# Altium footprint library ICs.PcbLib: 35 footprints (part 2 of 3)
Each footprint in its own frame and in the unit in brackets; x right, y up, seen from the top. Pads: shape width x height; smd on the part's side, far side on the other; paste and mask are expansions set on the pad; w line width, h text height; cw(c..) or ccw(c..) is an arc to the next point about the centre after c.
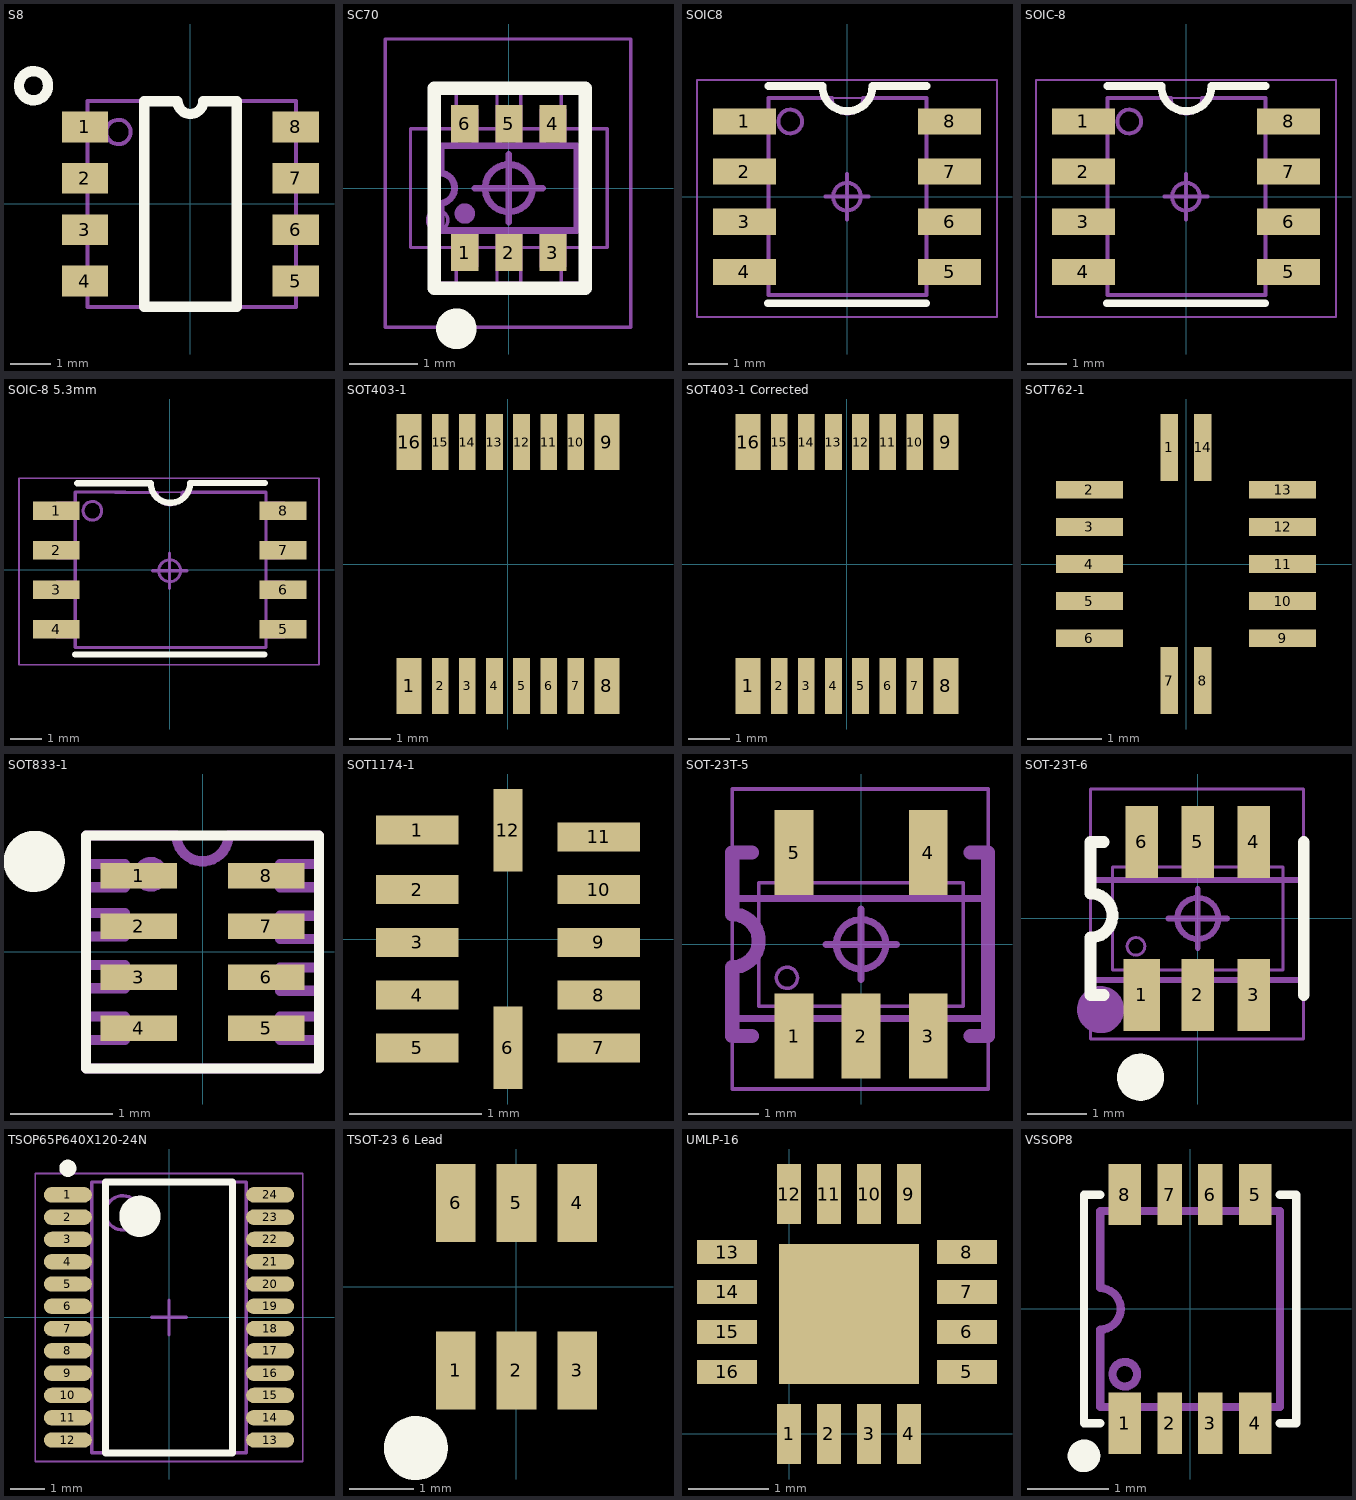
[diagram p1: the footprints below, top view; thin cyan lines are the x and y axes]

## S8 [mil] "8-Lead Splastic Small Outline Linear"
pads (8):
  rect 45x30 smd mask+4: 1(-102.5,75) 2(-102.5,25) 3(-102.5,-25) 4(-102.5,-75) 5(102.5,-75) 6(102.5,-25) 7(102.5,25) 8(102.5,75)
Top Overlay:
  circle w10: c-152.5,115 r14.14
  lines w10: -45,-100 45,-100 45,100 12.5,100 cw(c0,100) -12.5,100 -45,100 -45,-100
Mechanical 7:
  circle w3.94: c-70,70 r11.81
  lines w3.94: -100,-100 -100,100 -12.5,100 ccw(c0,100) 12.5,100 102.5,100 102.5,-100 -100,-100
  text ".Designator" at -20,35 h59.06
3D body "SOIC8.STEP": height 72.44, standoff 0, extent -119.68,-98.42 119.69,98.43

## SC70 [mm]
height 1.1
pads (6):
  rect 0.4x0.55 smd: 1(-0.65,-0.95) 2(0,-0.95) 3(0.65,-0.95) 4(0.65,0.95) 5(0,0.95) 6(-0.65,0.95)
Top Overlay:
  circle w0.3: c-0.775,-2.075 r0.15
  lines w0.2: -1.1,-1.475 1.125,-1.475 1.125,1.475 -1.1,1.475 -1.1,-1.475
Mechanical 2:
  circle w0.05: c-1.05,-0.475 r0.15
  lines w0.05: -1.125,-0.875 -1.125,-1.4 -0.775,-1.4 -0.775,-0.875 ; -1.125,0.875 -1.125,1.4 -0.775,1.4 -0.775,0.875 ; -0.175,-0.875 -0.175,-1.4 0.175,-1.4 0.175,-0.875 ; -0.175,0.875 -0.175,1.4 0.175,1.4 0.175,0.875 ; 0.775,-0.875 0.775,-1.4 1.125,-1.4 1.125,-0.875 ; 0.775,0.875 0.775,1.4 1.125,1.4 1.125,0.875 ; -1.45,-0.875 -1.45,0.875 1.45,0.875 1.45,-0.875 -1.45,-0.875
Mechanical 4:
  circle w0.1: c0,0 r0.35
  lines w0.05: -1.825,-2.05 -1.825,2.2 1.8,2.2 1.8,-2.05 -1.825,-2.05
  lines w0.1: -0.5,0 0.5,0 ; 0,-0.5 0,0.5
Mechanical 7:
  circle w0.15: c-0.65,-0.375 r0.075
  lines w0.1: -0.8,-0.625 -0.8,-1.15 -0.5,-1.15 -0.5,-0.625 ; -0.8,0.625 -0.8,1.15 -0.5,1.15 -0.5,0.625 ; -0.15,-0.625 -0.15,-1.15 0.15,-1.15 0.15,-0.625 ; -0.15,0.625 -0.15,1.15 0.15,1.15 0.15,0.625 ; 0.5,-0.625 0.5,-1.15 0.8,-1.15 0.8,-0.625 ; 0.5,0.625 0.5,1.15 0.8,1.15 0.8,0.625 ; -1,-0.625 -1,-0.225 ccw(c-1.027,0) -1,0.225 -1,0.625 1,0.625 1,-0.625 -1,-0.625
  text ".Designator" at -0.4,-0.475 h1.5
3D body: height 1.1, standoff 0, extent -1,-0.7 1,0.7

## SOIC8 [mm]
pads (8):
  rect 1.6x0.65 smd: 1(-2.6,1.905)
  rect 1.6x0.66 smd: 2(-2.6,0.635) 3(-2.6,-0.635) 4(-2.6,-1.905) 5(2.6,-1.905) 6(2.6,-0.635) 7(2.6,0.635) 8(2.6,1.905)
Top Overlay:
  lines w0.2: -2,-2.7 2,-2.7 ; -1.989,2.8 -0.624,2.8 ccw(c0.011,2.8) 0.646,2.8 2.011,2.8
Mechanical 2:
  lines w0.05: -1.989,-2.155 -2.589,-2.155 -2.589,-1.655 -1.989,-1.655 ; -1.989,-0.885 -2.589,-0.885 -2.589,-0.385 -1.989,-0.385 ; -1.989,0.385 -2.589,0.385 -2.589,0.885 -1.989,0.885 ; -1.989,1.655 -2.589,1.655 -2.589,2.155 -1.989,2.155 ; -0.389,2.505 ccw(c0.011,2.505) 0.411,2.505 ; 2.011,-2.155 2.611,-2.155 2.611,-1.655 2.011,-1.655 ; 2.011,-0.885 2.611,-0.885 2.611,-0.385 2.011,-0.385 ; 2.011,0.385 2.611,0.385 2.611,0.885 2.011,0.885 ; 2.011,1.655 2.611,1.655 2.611,2.155 2.011,2.155 ; -1.989,-2.495 2.011,-2.495 2.011,2.505 -1.989,2.505 -1.989,-2.495
Mechanical 4:
  circle w0.1: c0,0 r0.35
  lines w0.05: -3.8,-3.045 -3.8,2.955 3.8,2.955 3.8,-3.045 -3.8,-3.045
  lines w0.1: -0.55,0 0.55,0 ; 0,-0.575 0,0.575
Mechanical 7:
  circle w0.1: c-1.439,1.905 r0.3
  lines w0.1: -1.989,-2.155 -2.589,-2.155 -2.589,-1.655 -1.989,-1.655 ; -1.989,-0.885 -2.589,-0.885 -2.589,-0.385 -1.989,-0.385 ; -1.989,0.385 -2.589,0.385 -2.589,0.885 -1.989,0.885 ; -1.989,1.655 -2.589,1.655 -2.589,2.155 -1.989,2.155 ; -0.389,2.505 ccw(c0.011,2.505) 0.411,2.505 2.011,2.505 2.011,-2.495 -1.989,-2.495 -1.989,2.505 -0.381,2.505 ; 2.011,-2.155 2.611,-2.155 2.611,-1.655 2.011,-1.655 ; 2.011,-0.885 2.611,-0.885 2.611,-0.385 2.011,-0.385 ; 2.011,0.385 2.611,0.385 2.611,0.885 2.011,0.885 ; 2.011,1.655 2.611,1.655 2.611,2.155 2.011,2.155
  text ".Designator" at 0.55,-2.3 h2.2
3D body "SOIC8.STEP": height 1.84, standoff 0, extent -3.048,-2.489 3.032,2.511

## SOIC-8 [mm]
pads (8):
  rect 1.6x0.65 smd: 1(-2.6,1.905)
  rect 1.6x0.66 smd: 2(-2.6,0.635) 3(-2.6,-0.635) 4(-2.6,-1.905) 5(2.6,-1.905) 6(2.6,-0.635) 7(2.6,0.635) 8(2.6,1.905)
Top Overlay:
  lines w0.2: -2,-2.7 2,-2.7 ; -1.989,2.8 -0.624,2.8 ccw(c0.011,2.8) 0.646,2.8 2.011,2.8
Mechanical 2:
  lines w0.05: -1.989,-2.155 -2.589,-2.155 -2.589,-1.655 -1.989,-1.655 ; -1.989,-0.885 -2.589,-0.885 -2.589,-0.385 -1.989,-0.385 ; -1.989,0.385 -2.589,0.385 -2.589,0.885 -1.989,0.885 ; -1.989,1.655 -2.589,1.655 -2.589,2.155 -1.989,2.155 ; -0.389,2.505 ccw(c0.011,2.505) 0.411,2.505 ; 2.011,-2.155 2.611,-2.155 2.611,-1.655 2.011,-1.655 ; 2.011,-0.885 2.611,-0.885 2.611,-0.385 2.011,-0.385 ; 2.011,0.385 2.611,0.385 2.611,0.885 2.011,0.885 ; 2.011,1.655 2.611,1.655 2.611,2.155 2.011,2.155 ; -1.989,-2.495 -1.989,2.505 2.011,2.505 2.011,-2.495 -1.989,-2.495
Mechanical 4:
  circle w0.1: c0,0 r0.35
  lines w0.05: -3.8,-3.045 3.8,-3.045 3.8,2.955 -3.8,2.955 -3.8,-3.045
  lines w0.1: -0.55,0 0.55,0 ; 0,-0.575 0,0.575
Mechanical 7:
  circle w0.1: c-1.439,1.905 r0.3
  lines w0.1: -1.989,-2.155 -2.589,-2.155 -2.589,-1.655 -1.989,-1.655 ; -1.989,-0.885 -2.589,-0.885 -2.589,-0.385 -1.989,-0.385 ; -1.989,0.385 -2.589,0.385 -2.589,0.885 -1.989,0.885 ; -1.989,1.655 -2.589,1.655 -2.589,2.155 -1.989,2.155 ; -0.389,2.505 ccw(c0.011,2.505) 0.411,2.505 2.011,2.505 2.011,-2.495 -1.989,-2.495 -1.989,2.505 -0.381,2.505 ; 2.011,-2.155 2.611,-2.155 2.611,-1.655 2.011,-1.655 ; 2.011,-0.885 2.611,-0.885 2.611,-0.385 2.011,-0.385 ; 2.011,0.385 2.611,0.385 2.611,0.885 2.011,0.885 ; 2.011,1.655 2.611,1.655 2.611,2.155 2.011,2.155
3D body "SOIC8.STEP": height 1.84, standoff 0, extent -3.048,-2.489 3.032,2.511

## SOIC-8 5.3mm [mm]
pads (8):
  rect 1.5x0.6 smd: 1(-3.65,1.905) 2(-3.65,0.635) 3(-3.65,-0.635) 4(-3.65,-1.905) 5(3.65,-1.905) 6(3.65,-0.635) 7(3.65,0.635) 8(3.65,1.905)
Top Overlay:
  lines w0.2: -3.048,-2.718 3.048,-2.718 ; -2.972,2.794 -0.61,2.794 ccw(c0.025,2.794) 0.66,2.794 ; 0.66,2.8 3.073,2.8
Mechanical 2:
  lines w0.05: -3.039,-2.155 -3.639,-2.155 -3.639,-1.655 -3.039,-1.655 ; -3.039,-0.885 -3.639,-0.885 -3.639,-0.385 -3.039,-0.385 ; -3.039,0.385 -3.639,0.385 -3.639,0.885 -3.039,0.885 ; -3.039,1.655 -3.639,1.655 -3.639,2.155 -3.039,2.155 ; -0.394,2.489 ccw(c0.006,2.489) 0.406,2.489 ; 3.091,-2.499 3.091,2.501 ; 3.091,-2.495 -3.039,-2.495 -3.039,2.505 3.091,2.505 ; 3.091,-2.159 3.691,-2.159 3.691,-1.659 3.091,-1.659 ; 3.091,-0.889 3.691,-0.889 3.691,-0.389 3.091,-0.389 ; 3.091,0.381 3.691,0.381 3.691,0.881 3.091,0.881 ; 3.091,1.651 3.691,1.651 3.691,2.151 3.091,2.151
Mechanical 4:
  circle w0.1: c0,-0.025 r0.35
  lines w0.05: 4.808,-3.045 -4.85,-3.045 -4.85,2.955 4.808,2.955
  lines w0.051: 4.808,-3.045 4.808,2.955
  lines w0.1: -0.55,-0.025 0.55,-0.025 ; 0,-0.6 0,0.55
Mechanical 7:
  circle w0.1: c-2.489,1.905 r0.3
  lines w0.1: -3.039,-2.155 -3.639,-2.155 -3.639,-1.655 -3.039,-1.655 ; -3.039,-0.885 -3.639,-0.885 -3.639,-0.385 -3.039,-0.385 ; -3.039,0.385 -3.639,0.385 -3.639,0.885 -3.039,0.885 ; -3.039,1.655 -3.639,1.655 -3.639,2.155 -3.039,2.155 ; -1.753,2.489 -0.394,2.489 ccw(c0.006,2.489) 0.406,2.489 ; -1.431,2.505 -3.039,2.505 -3.039,-2.495 0.961,-2.495 3.095,-2.495 ; 0.418,2.501 1.499,2.501 3.099,2.501 3.099,-2.499 ; 3.099,-2.159 3.699,-2.159 3.699,-1.659 3.099,-1.659 ; 3.099,-0.889 3.699,-0.889 3.699,-0.389 3.099,-0.389 ; 3.099,0.381 3.699,0.381 3.699,0.881 3.099,0.881 ; 3.099,1.651 3.699,1.651 3.699,2.151 3.099,2.151
3D body "SOIC-8-208MIL.stp": height 2, standoff 0, extent -4.062,-2.485 4.062,2.515

## SOT403-1 [mm]
pads (16):
  rect 0.6x1.35 smd mask+0.051: 1(-2.375,-2.925) 8(2.375,-2.925) 9(2.375,2.925) 16(-2.375,2.925)
  rect 0.4x1.35 smd mask+0.051: 2(-1.625,-2.925) 3(-0.975,-2.925) 4(-0.325,-2.925) 5(0.325,-2.925) 6(0.975,-2.925) 7(1.625,-2.925) 10(1.625,2.925) 11(0.975,2.925) 12(0.325,2.925) 13(-0.325,2.925) 14(-0.975,2.925) 15(-1.625,2.925)
3D body "TSSOP16.stp": height 1.11, standoff 0.01, extent -2.551,-3.171 2.551,3.259

## SOT403-1 Corrected [mm]
pads (16):
  rect 0.6x1.35 smd mask+0.051: 1(-2.375,-2.925) 8(2.375,-2.925) 9(2.375,2.925) 16(-2.375,2.925)
  rect 0.4x1.35 smd mask+0.051: 2(-1.625,-2.925) 3(-0.975,-2.925) 4(-0.325,-2.925) 5(0.325,-2.925) 6(0.975,-2.925) 7(1.625,-2.925) 10(1.625,2.925) 11(0.975,2.925) 12(0.325,2.925) 13(-0.325,2.925) 14(-0.975,2.925) 15(-1.625,2.925)
3D body "TSSOP16.stp": height 1.11, standoff 0.01, extent -2.551,-3.171 2.551,3.259

## SOT762-1 [mm]
pads (14):
  rect 0.24x0.9 smd mask+0.051: 1(-0.225,1.57) 7(-0.225,-1.57) 8(0.225,-1.57) 14(0.225,1.57)
  rect 0.9x0.24 smd mask+0.051: 2(-1.3,1) 3(-1.3,0.5) 4(-1.3,0) 5(-1.3,-0.5) 6(-1.3,-1) 9(1.3,-1) 10(1.3,-0.5) 11(1.3,0) 12(1.3,0.5) 13(1.3,1)
3D body: height 1, standoff 0, extent -1.25,-1.5 1.25,1.5

## SOT833-1 [mm]
height 0.5
pads (8):
  rect 0.75x0.25 smd mask+0.025: 1(-0.625,0.75) 2(-0.625,0.25) 3(-0.625,-0.25) 4(-0.625,-0.75) 5(0.625,-0.75) 6(0.625,-0.25) 7(0.625,0.25) 8(0.625,0.75)
Top Overlay:
  circle w0.3: c-1.651,0.889 r0.15
  lines w0.1: -1.143,-1.143 1.143,-1.143 1.143,1.143 -1.143,1.143 -1.143,-1.143
Mechanical 7:
  circle w0.1: c-0.508,0.762 r0.12
  lines w0.1: -1.143,-0.864 -0.762,-0.864 -0.762,-0.635 -1.143,-0.635 ; -1.143,-0.356 -0.762,-0.356 -0.762,-0.127 -1.143,-0.127 ; -1.143,0.152 -0.762,0.152 -0.762,0.381 -1.143,0.381 ; -1.143,0.635 -0.762,0.635 -0.762,0.864 -1.143,0.864 ; 1.143,-0.864 0.762,-0.864 0.762,-0.635 1.143,-0.635 ; 1.143,-0.381 0.762,-0.381 0.762,-0.152 1.143,-0.152 ; 1.143,0.127 0.762,0.127 0.762,0.356 1.143,0.356 ; 1.143,0.635 0.762,0.635 0.762,0.864 1.143,0.864 ; -1.143,-1.143 -1.143,1.143 -0.254,1.143 ccw(c0,1.143) 0.254,1.143 1.143,1.143 1.143,-1.143 -1.143,-1.143
  text ".Designator" at -0.508,0.508 h1.5
3D body: height 0.5, standoff 0, extent -0.5,-1 0.5,1

## SOT1174-1 [mm]
pads (12):
  rect 0.625x0.22 smd mask+0.025: 1(-0.687,0.825) 2(-0.687,0.375) 3(-0.687,-0.025) 4(-0.687,-0.425) 5(-0.687,-0.825) 7(0.688,-0.825) 8(0.688,-0.425) 9(0.688,-0.025) 10(0.688,0.375) 11(0.688,0.775)
  rect 0.22x0.625 smd mask+0.025: 6(0,-0.825) 12(0,0.825)
3D body: height 0.5, standoff 0, extent -0.9,-1.05 0.9,1.05

## SOT-23T-5 [mm] "SOT-23-5pins.ogl"
pads (5):
  rect 0.55x1.2 smd: 1(-0.95,-1.3) 2(0,-1.3) 3(0.95,-1.3) 4(0.95,1.3) 5(-0.95,1.3)
Mechanical 2:
  circle w0.05: c-1.05,-0.475 r0.15
  lines w0.05: -1.125,-0.875 -1.125,-1.4 -0.775,-1.4 -0.775,-0.875 ; -1.125,0.875 -1.125,1.4 -0.775,1.4 -0.775,0.875 ; -0.175,-0.875 -0.175,-1.4 0.175,-1.4 0.175,-0.875 ; 0.775,-0.875 0.775,-1.4 1.125,-1.4 1.125,-0.875 ; 0.775,0.875 0.775,1.4 1.125,1.4 1.125,0.875 ; -1.45,-0.875 1.45,-0.875 1.45,0.875 -1.45,0.875 -1.45,-0.875
Mechanical 4:
  circle w0.1: c0,0 r0.35
  lines w0.05: -1.825,-2.05 1.8,-2.05 1.8,2.2 -1.825,2.2 -1.825,-2.05
  lines w0.1: -0.5,0 0.5,0 ; 0,-0.5 0,0.5
Mechanical 7:
  lines w0.1: -1.75,-1.05 1.7,-1.05 ; -1.75,0.65 1.7,0.65 ; -1.15,-1.05 -1.15,-1.65 -0.75,-1.65 -0.75,-1.05 ; -1.15,0.7 -1.15,1.3 -0.75,1.3 -0.75,0.7 ; -0.2,-1.05 -0.2,-1.65 0.2,-1.65 0.2,-1.05 ; 0.75,-1.05 0.75,-1.65 1.15,-1.65 1.15,-1.05 ; 0.75,0.65 0.75,1.25 1.15,1.25 1.15,0.65
  text ".Designator" at -1.75,-0.775 h1.8
Mechanical 13:
  lines w0.2: -1.55,-1.3 -1.825,-1.3 -1.825,-0.325 ccw(c-1.825,0.05) -1.825,0.425 -1.825,1.3 -1.55,1.3 ; 1.55,-1.3 1.8,-1.3 1.8,1.3 1.55,1.3
3D body "SOT-23T-5.STEP": height 1.4, standoff 0, extent -1.45,-1.8 1.45,1.82

## SOT-23T-6 [mm] "SOT-23.ogl"
pads (6):
  rect 0.62x1.22 smd: 1(-0.95,-1.3)
  rect 0.55x1.22 smd: 2(0,-1.3) 3(0.95,-1.3) 4(0.95,1.3) 5(0,1.3) 6(-0.95,1.3)
Top Overlay:
  circle w0.4: c-0.975,-2.7 r0.2
  lines w0.2: -1.6,-1.3 -1.825,-1.3 -1.825,-0.325 ccw(c-1.825,0.05) -1.825,0.425 -1.825,1.3 -1.6,1.3 ; 1.8,-1.3 1.8,1.3
Mechanical 2:
  circle w0.05: c-1.05,-0.475 r0.15
  lines w0.05: -1.125,-0.875 -1.125,-1.4 -0.775,-1.4 -0.775,-0.875 ; -1.125,0.875 -1.125,1.4 -0.775,1.4 -0.775,0.875 ; -0.175,-0.875 -0.175,-1.4 0.175,-1.4 0.175,-0.875 ; -0.175,0.875 -0.175,1.4 0.175,1.4 0.175,0.875 ; 0.775,-0.875 0.775,-1.4 1.125,-1.4 1.125,-0.875 ; 0.775,0.875 0.775,1.4 1.125,1.4 1.125,0.875 ; -1.45,-0.875 -1.45,0.875 1.45,0.875 1.45,-0.875 -1.45,-0.875
Mechanical 4:
  circle w0.1: c0,0 r0.35
  lines w0.05: -1.825,-2.05 -1.825,2.2 1.8,2.2 1.8,-2.05 -1.825,-2.05
  lines w0.1: -0.5,0 0.5,0 ; 0,-0.5 0,0.5
Mechanical 7:
  circle w0.4: c-1.65,-1.55 r0.2
  lines w0.1: -1.75,-1.05 1.7,-1.05 ; -1.75,0.65 1.7,0.65 ; -1.15,-1.05 -1.15,-1.65 -0.75,-1.65 -0.75,-1.05 ; -1.15,0.7 -1.15,1.3 -0.75,1.3 -0.75,0.7 ; -0.2,-1.05 -0.2,-1.65 0.2,-1.65 0.2,-1.05 ; -0.2,0.65 -0.2,1.25 0.2,1.25 0.2,0.65 ; 0.75,-1.05 0.75,-1.65 1.15,-1.65 1.15,-1.05 ; 0.75,0.65 0.75,1.25 1.15,1.25 1.15,0.65
  text ".Designator" at -1.75,-0.775 h1.8
3D body "SOT-23T-6.STEP": height 1.1, standoff 0, extent -1.425,-1.45 1.475,1.45

## TSOP65P640X120-24N [mm] "TSOP, 24-Leads, Body 7.80x4.40mm, Pitch 0.65mm, IPC Medium Density"
height 1.2
pads (24):
  oval 1.4x0.45 smd mask+0.051: 1(-2.95,3.575) 2(-2.95,2.925) 3(-2.95,2.275) 4(-2.95,1.625) 5(-2.95,0.975) 6(-2.95,0.325) 7(-2.95,-0.325) 8(-2.95,-0.975) 9(-2.95,-1.625) 10(-2.95,-2.275) 11(-2.95,-2.925) 12(-2.95,-3.575) 13(2.95,-3.575) 14(2.95,-2.925) 15(2.95,-2.275) 16(2.95,-1.625) 17(2.95,-0.975) 18(2.95,-0.325) 19(2.95,0.325) 20(2.95,0.975) 21(2.95,1.625) 22(2.95,2.275) 23(2.95,2.925) 24(2.95,3.575)
Top Overlay:
  circle w0.6: c-0.85,2.95 r0.3
  circle w0.25: c-2.95,4.35 r0.125
  lines w0.2: -1.85,-3.95 1.85,-3.95 1.85,3.95 -1.85,3.95 -1.85,-3.95
Mechanical 13:
  circle w0.1: c-1.35,3.05 r0.5
  lines w0.1: -2.25,-3.95 2.25,-3.95 2.25,3.95 -2.25,3.95 -2.25,-3.95
Mechanical 15:
  lines w0.05: -3.9,-4.2 3.9,-4.2 3.9,4.2 -3.9,4.2 -3.9,-4.2
  lines w0.1: -0.5,0 0.5,0 ; 0,-0.5 0,0.5
3D body "TSOP65P640X120-24N.step": height 1.2, standoff 0, extent -3.2,-3.95 3.2,3.95

## TSOT-23 6 Lead [mm]
pads (6):
  rect 0.62x1.22 smd mask+0.03: 1(-0.95,-1.31) 2(0,-1.31) 3(0.95,-1.31) 4(0.95,1.31) 5(0,1.31) 6(-0.95,1.31)
Top Overlay:
  circle w0.5: c-1.575,-2.525 r0.25
3D body: height 1, standoff 0, extent -1.45,-0.8 1.45,0.8

## UMLP-16 [mm]
height 0.5
pads (17):
  rect 0.3x0.75 smd mask+0.051: 1(0,0) 2(0.5,0) 3(1,0) 4(1.5,0) 9(1.5,3) 10(1,3) 11(0.5,3) 12(0,3)
  rect 0.75x0.3 smd mask+0.051: 5(2.225,0.775) 6(2.225,1.275) 7(2.225,1.775) 8(2.225,2.275) 13(-0.775,2.275) 14(-0.775,1.775) 15(-0.775,1.275) 16(-0.775,0.775)
  rect 1.75x1.75 smd mask+0.051: ""(0.75,1.5)
3D body "QFN-16 (3x3).stp": height 0.81, standoff -0.05, extent -0.759,0.027 2.241,3.027

## VSSOP8 [mm] "VSSOP8 (SOT765-1)"
height 1
pads (8):
  rect 0.4x0.75 smd mask+0.025: 1(-0.8,-1.4) 4(0.8,-1.4) 5(0.8,1.4) 8(-0.8,1.4)
  rect 0.3x0.75 smd mask+0.025: 2(-0.25,-1.4) 3(0.25,-1.4) 6(0.25,1.4) 7(-0.25,1.4)
Top Overlay:
  circle w0.2: c-1.3,-1.8 r0.1
  lines w0.102: -1.1,-1.4 -1.3,-1.4 -1.3,1.4 -1.1,1.4 ; 1.1,-1.4 1.3,-1.4 1.3,1.4 1.1,1.4
Mechanical 7:
  circle w0.1: c-0.8,-0.8 r0.15
  lines w0.1: -1.1,-1.2 1.1,-1.2 1.1,1.2 -1.1,1.2 -1.1,0.254 cw(c-1.104,0) -1.1,-0.254 -1.1,-1.2
  lines w0.102: -0.838,-1.219 -0.838,-1.549 -0.678,-1.549 -0.678,-1.219 ; -0.838,1.219 -0.838,1.549 -0.678,1.549 -0.678,1.219 ; -0.33,-1.219 -0.33,-1.549 -0.17,-1.549 -0.17,-1.219 ; -0.33,1.219 -0.33,1.549 -0.17,1.549 -0.17,1.219 ; 0.17,-1.219 0.17,-1.549 0.33,-1.549 0.33,-1.219 ; 0.17,1.219 0.17,1.549 0.33,1.549 0.33,1.219 ; 0.678,-1.219 0.678,-1.549 0.838,-1.549 0.838,-1.219 ; 0.678,1.219 0.678,1.549 0.838,1.549 0.838,1.219
  text ".Designator" at -0.508,-0.381 h1.5
3D body: height 0.55, standoff 0, extent -1,-1.5 1,1.5
3D body: height 1, standoff 0, extent -1.1,-1.2 1.1,1.2